# Altium footprint library CONN_HDR_MINI.PcbLib: 37 footprints (part 3 of 3)
Each footprint in its own frame and in the unit in brackets; x right, y up, seen from the top. Pads: shape width x height; smd on the part's side, far side on the other; paste and mask are expansions set on the pad; w line width, h text height; cw(c..) or ccw(c..) is an arc to the next point about the centre after c.
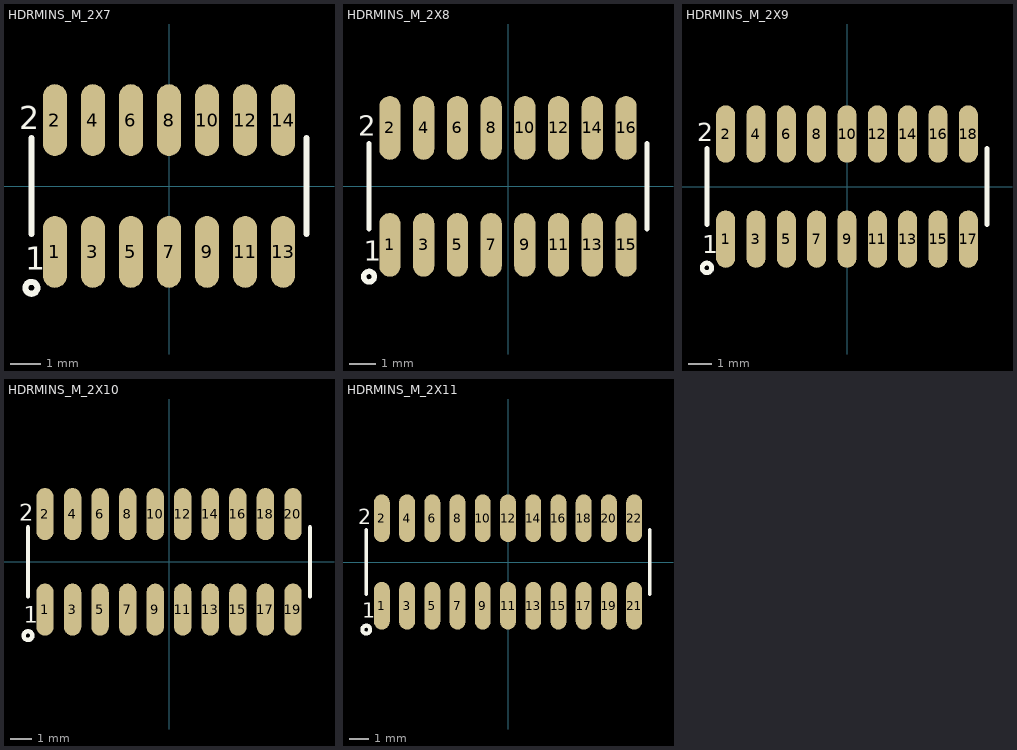
[diagram p2: the footprints below, top view; thin cyan lines are the x and y axes]

## HDRMINS_M_2X7 [mm] "FCI Minitek127® BTB, HEADER UNSHROUDED, SMT, 14, 1.27mm"
pads (14):
  oval 0.8x2.4 smd: 1(-3.81,-2.2) 2(-3.81,2.2) 3(-2.54,-2.2) 4(-2.54,2.2) 5(-1.27,-2.2) 6(-1.27,2.2) 7(0,-2.2) 8(0,2.2) 9(1.27,-2.2) 10(1.27,2.2) 11(2.54,-2.2) 12(2.54,2.2) 13(3.81,-2.2) 14(3.81,2.2)
Top Overlay:
  circle w0.2: c-4.595,-3.4 r0.2
  lines w0.2: -4.595,-1.6 -4.595,1.6 ; 4.595,-1.6 4.595,1.6
  text "1" at -4.795,-2.8 h0.76
  text "2" at -4.995,1.9 h0.76
3D body "20021121-00004XXLFc.stp": height 4.5, standoff 0, extent -4.445,-2.75 -1.905,2.75
3D body "20021121-00006XXLFc.stp": height 4.5, standoff 0, extent -1.905,-2.75 1.905,2.75
3D body "20021121-00004XXLFc.stp": height 4.5, standoff 0, extent 1.905,-2.75 4.445,2.75

## HDRMINS_M_2X8 [mm] "FCI Minitek127® BTB, HEADER UNSHROUDED, SMT, 16, 1.27mm"
pads (16):
  oval 0.8x2.4 smd: 1(-4.445,-2.2) 2(-4.445,2.2) 3(-3.175,-2.2) 4(-3.175,2.2) 5(-1.905,-2.2) 6(-1.905,2.2) 7(-0.635,-2.2) 8(-0.635,2.2) 9(0.635,-2.2) 10(0.635,2.2) 11(1.905,-2.2) 12(1.905,2.2) 13(3.175,-2.2) 14(3.175,2.2) 15(4.445,-2.2) 16(4.445,2.2)
Top Overlay:
  circle w0.2: c-5.23,-3.4 r0.2
  lines w0.2: -5.23,-1.6 -5.23,1.6 ; 5.23,-1.6 5.23,1.6
  text "1" at -5.43,-2.8 h0.76
  text "2" at -5.63,1.9 h0.76
3D body "20021121-00004XXLFc.stp": height 4.5, standoff 0, extent -2.54,-2.75 0,2.75
3D body "20021121-00004XXLFc.stp": height 4.5, standoff 0, extent -5.08,-2.75 -2.54,2.75
3D body "20021121-00004XXLFc.stp": height 4.5, standoff 0, extent 2.54,-2.75 5.08,2.75
3D body "20021121-00004XXLFc.stp": height 4.5, standoff 0, extent 0,-2.75 2.54,2.75

## HDRMINS_M_2X9 [mm] "FCI Minitek127® BTB, HEADER UNSHROUDED, SMT, 18, 1.27mm"
pads (18):
  oval 0.8x2.4 smd: 1(-5.08,-2.2) 2(-5.08,2.2) 3(-3.81,-2.2) 4(-3.81,2.2) 5(-2.54,-2.2) 6(-2.54,2.2) 7(-1.27,-2.2) 8(-1.27,2.2) 9(0,-2.2) 10(0,2.2) 11(1.27,-2.2) 12(1.27,2.2) 13(2.54,-2.2) 14(2.54,2.2) 15(3.81,-2.2) 16(3.81,2.2) 17(5.08,-2.2) 18(5.08,2.2)
Top Overlay:
  circle w0.2: c-5.865,-3.4 r0.2
  lines w0.2: -5.865,-1.6 -5.865,1.6 ; 5.865,-1.6 5.865,1.6
  text "1" at -6.065,-2.8 h0.76
  text "2" at -6.265,1.9 h0.76
3D body "20021121-00004XXLFc.stp": height 4.5, standoff 0, extent -3.175,-2.75 -0.635,2.75
3D body "20021121-00004XXLFc.stp": height 4.5, standoff 0, extent -5.715,-2.75 -3.175,2.75
3D body "20021121-00004XXLFc.stp": height 4.5, standoff 0, extent -0.635,-2.75 1.905,2.75
3D body "20021121-00006XXLFc.stp": height 4.5, standoff 0, extent 1.905,-2.75 5.715,2.75

## HDRMINS_M_2X10 [mm] "FCI Minitek127® BTB, HEADER UNSHROUDED, SMT, 20   Part Number: 2002112100020D4LF"
pads (20):
  oval 0.8x2.4 smd: 1(-5.715,-2.2) 2(-5.715,2.2) 3(-4.445,-2.2) 4(-4.445,2.2) 5(-3.175,-2.2) 6(-3.175,2.2) 7(-1.905,-2.2) 8(-1.905,2.2) 9(-0.635,-2.2) 10(-0.635,2.2) 11(0.635,-2.2) 12(0.635,2.2) 13(1.905,-2.2) 14(1.905,2.2) 15(3.175,-2.2) 16(3.175,2.2) 17(4.445,-2.2) 18(4.445,2.2) 19(5.715,-2.2) 20(5.715,2.2)
Top Overlay:
  circle w0.2: c-6.5,-3.4 r0.2
  lines w0.2: -6.5,-1.6 -6.5,1.6 ; 6.5,-1.6 6.5,1.6
  text "2" at -6.9,1.9 h0.76
  text "1" at -6.7,-2.8 h0.76
3D body "2002112100020d4lf.stp": height 4.5, standoff 0, extent -6.35,-2.8 6.35,2.7

## HDRMINS_M_2X11 [mm] "FCI Minitek127® BTB, HEADER UNSHROUDED, SMT, 22   Part Number: 2002112100020D4LF"
pads (22):
  oval 0.8x2.4 smd: 1(-6.35,-2.2) 2(-6.35,2.2) 3(-5.08,-2.2) 4(-5.08,2.2) 5(-3.81,-2.2) 6(-3.81,2.2) 7(-2.54,-2.2) 8(-2.54,2.2) 9(-1.27,-2.2) 10(-1.27,2.2) 11(0,-2.2) 12(0,2.2) 13(1.27,-2.2) 14(1.27,2.2) 15(2.54,-2.2) 16(2.54,2.2) 17(3.81,-2.2) 18(3.81,2.2) 19(5.08,-2.2) 20(5.08,2.2) 21(6.35,-2.2) 22(6.35,2.2)
Top Overlay:
  circle w0.2: c-7.135,-3.4 r0.2
  lines w0.2: -7.135,-1.6 -7.135,1.6 ; 7.135,-1.6 7.135,1.6
  text "2" at -7.535,1.9 h0.76
  text "1" at -7.335,-2.8 h0.76
3D body "20021121-00022XXLFc.stp": height 4.5, standoff 0, extent -6.985,-2.8 6.985,2.7